# EAGLE library part PMA5-63-2W+ (library My_Library_2)
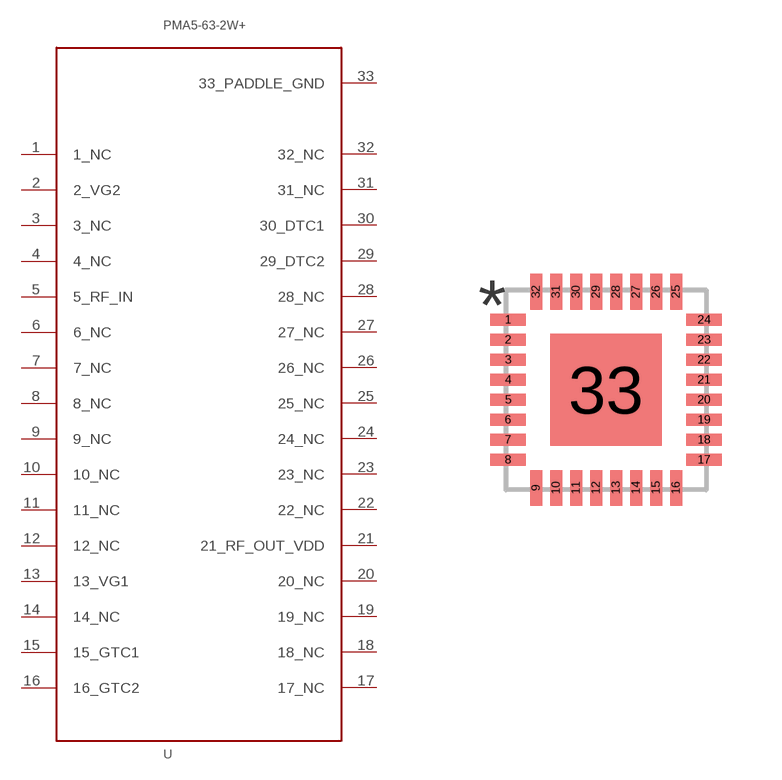
[diagram p15: symbol with the pads of PMA5-63-2W+; footprint PMA5-63-2W+]

Designator prefix -

## PMA5-63-2W+  [PMA5-63-2W+]
1  1_NC
2  2_VG2
3  3_NC
4  4_NC
5  5_RF_IN
6  6_NC
7  7_NC
8  8_NC
9  9_NC
10  10_NC
11  11_NC
12  12_NC
13  13_VG1
14  14_NC
15  15_GTC1
16  16_GTC2
17  17_NC
18  18_NC
19  19_NC
20  20_NC
21  21_RF_OUT_VDD
22  22_NC
23  23_NC
24  24_NC
25  25_NC
26  26_NC
27  27_NC
28  28_NC
29  29_DTC2
30  30_DTC1
31  31_NC
32  32_NC
33  33_PADDLE_GND

## Footprint PMA5-63-2W+ (pad centres in mm)
smd 0.89 x 0.3: 1 -2.45,1.75; 2 -2.45,1.25; 3 -2.45,0.75; 4 -2.45,0.25; 5 -2.45,-0.25; 6 -2.45,-0.75; 7 -2.45,-1.25; 8 -2.45,-1.75; 17 2.45,-1.75; 18 2.45,-1.25; 19 2.45,-0.75; 20 2.45,-0.25; 21 2.45,0.25; 22 2.45,0.75; 23 2.45,1.25; 24 2.45,1.75
smd 0.3 x 0.89: 9 -1.75,-2.45; 10 -1.25,-2.45; 11 -0.75,-2.45; 12 -0.25,-2.45; 13 0.25,-2.45; 14 0.75,-2.45; 15 1.25,-2.45; 16 1.75,-2.45; 25 1.75,2.45; 26 1.25,2.45; 27 0.75,2.45; 28 0.25,2.45; 29 -0.25,2.45; 30 -0.75,2.45; 31 -1.25,2.45; 32 -1.75,2.45
smd 2.79 x 2.79: 33 0,0